# Altium footprint library ADAFRUIT_2478.PcbLib: 1 footprints
Each footprint in its own frame and in the unit in brackets; x right, y up, seen from the top. Pads: shape width x height; smd on the part's side, far side on the other; paste and mask are expansions set on the pad; w line width, h text height; cw(c..) or ccw(c..) is an arc to the next point about the centre after c.
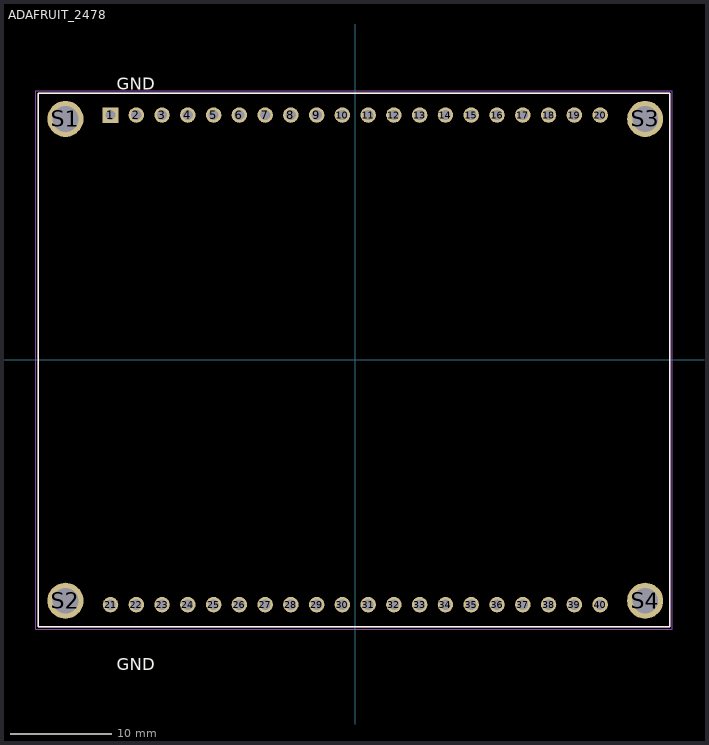
[diagram p0: the footprint, top view; thin cyan lines are the x and y axes]

## ADAFRUIT_2478 [mm]
pads (44):
  rect 1.53x1.53 / inner round 1.53 / far side rect 1.53x1.53 hole 1.02: 1(-24.13,24.13)
  round 1.53 hole 1.02: 2(-21.59,24.13) 3(-19.05,24.13) 4(-16.51,24.13) 5(-13.97,24.13) 6(-11.43,24.13) 7(-8.89,24.13) 8(-6.35,24.13) 9(-3.81,24.13) 10(-1.27,24.13) 11(1.27,24.13) 12(3.81,24.13) 13(6.35,24.13) 14(8.89,24.13) 15(11.43,24.13) 16(13.97,24.13) 17(16.51,24.13) 18(19.05,24.13) 19(21.59,24.13) 20(24.13,24.13) 21(-24.13,-24.13) 22(-21.59,-24.13) 23(-19.05,-24.13) 24(-16.51,-24.13) 25(-13.97,-24.13) 26(-11.43,-24.13) 27(-8.89,-24.13) 28(-6.35,-24.13) 29(-3.81,-24.13) 30(-1.27,-24.13) 31(1.27,-24.13) 32(3.81,-24.13) 33(6.35,-24.13) 34(8.89,-24.13) 35(11.43,-24.13) 36(13.97,-24.13) 37(16.51,-24.13) 38(19.05,-24.13) 39(21.59,-24.13) 40(24.13,-24.13)
  round 3.556 hole 2.54: S1(-28.575,23.749) S2(-28.575,-23.749) S3(28.575,23.749) S4(28.575,-23.749)
Top Overlay:
  lines w0.127: -31.242,-26.289 -31.242,26.289 30.988,26.289 30.988,-26.289 -31.242,-26.289
  text "GND" at -23.517,26.62 h1.2
  text "GND" at -23.512,-30.615 h1.2
Mechanical 13:
  lines w0.127: -31.242,-26.289 30.988,-26.289 30.988,26.289 -31.242,26.289 -31.242,-26.289
  text "GND" at -23.542,26.647 h1.2
  text "GND" at -23.534,-30.644 h1.2
Mechanical 15:
  lines w0.05: -31.492,-26.539 31.238,-26.539 31.238,26.539 -31.492,26.539 -31.492,-26.539
3D body "step_temp.STEP": height 6.55, standoff -2.55, extent -31.115,-26.289 31.115,26.289